# EAGLE library part MUX.DEMUX-8X.2:2_PI3PCIE3242AZLEX (library KVM-Keyboard)
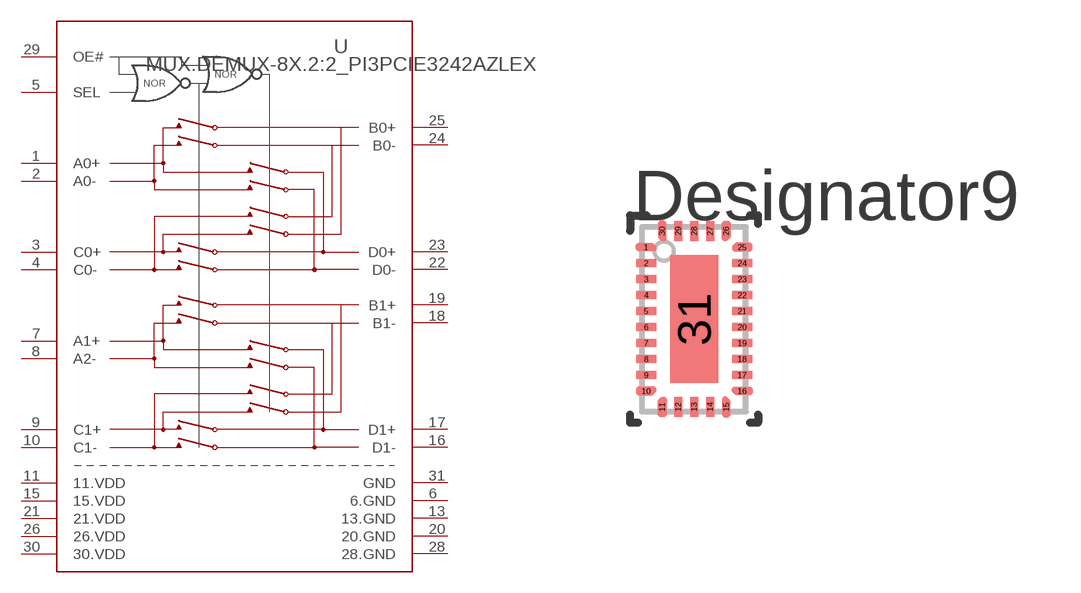
[diagram p9: symbol with the pads of 30-WFQFN_EXPOSED.PAD; footprint 30-WFQFN_EXPOSED.PAD]

Designator prefix U

## MUX.DEMUX-8X.2:2_PI3PCIE3242AZLEX (COPYRIGHT: Copyright (C) 2022 Ultra Librarian. All rights reserved.; MANUFACTURER_PART_NUMBER: HD3SS3220IRNHR; MFR_NAME: Texas Instruments; REFDES: RefDes; TYPE: TYPE)  [30-WFQFN_EXPOSED.PAD]
1  A0+  in
2  A0-  in
3  C0+  oc
4  C0-  oc
5  SEL  pwr
6  6.GND
7  A1+  oc
8  A2-  in
9  C1+  in
10  C1-
11  11.VDD
13  13.GND  pwr
15  15.VDD
16  D1-
17  D1+  in
18  B1-
19  B1+
20  20.GND
21  21.VDD
22  D0-
23  D0+
24  B0-  oc
25  B0+  in
26  26.VDD
28  28.GND
29  OE#  pwr
30  30.VDD
31  GND

## Footprint 30-WFQFN_EXPOSED.PAD (pad centres in mm)
smd 0.3 x 0.2: 1 -1.2,1.8; 10 -1.2,-1.8; 16 1.2,-1.8; 25 1.2,1.8
smd 0.5 x 0.2: 2 -1.2,1.4; 3 -1.2,1; 4 -1.2,0.6; 5 -1.2,0.2; 6 -1.2,-0.2; 7 -1.2,-0.6; 8 -1.2,-1; 9 -1.2,-1.4; 17 1.2,-1.4; 18 1.2,-1; 19 1.2,-0.6; 20 1.2,-0.2; 21 1.2,0.2; 22 1.2,0.6; 23 1.2,1; 24 1.2,1.4
smd 0.2 x 0.3: 11 -0.8,-2.2; 15 0.8,-2.2; 26 0.8,2.2; 30 -0.8,2.2
smd 0.2 x 0.5: 12 -0.4,-2.2; 13 0,-2.2; 14 0.4,-2.2; 27 0.4,2.2; 28 0,2.2; 29 -0.4,2.2
smd 1.2 x 3.2: 31 0,0